# EAGLE library part POTH_4 (library Pot1)
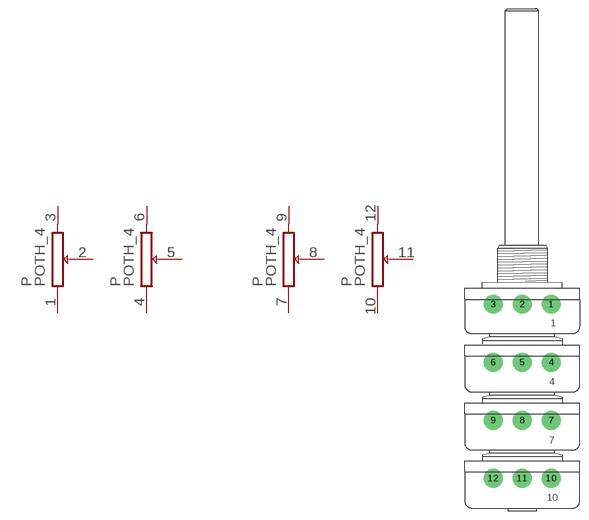
[diagram p3: symbol with the pads of POTH_4; footprint POTH_4]

Designator prefix P; gates G$1=POT_A G$2=POT_A G$3=POT_A G$4=POT_A

## POTH_4  [POTH_4]
1  G$1:1  pas
2  G$1:2  pas
3  G$1:3  pas
4  G$2:1  pas
5  G$2:2  pas
6  G$2:3  pas
7  G$3:1  pas
8  G$3:2  pas
9  G$3:3  pas
10  G$4:1  pas
11  G$4:2  pas
12  G$4:3  pas

## Footprint POTH_4 (pad centres in mm)
drill 0.813 pad 3.302 round: 1 5.08,13.97; 2 0,13.97; 3 -5.08,13.97; 4 5.08,3.81; 5 0,3.81; 6 -5.08,3.81; 7 5.08,-6.35; 8 0,-6.35; 9 -5.08,-6.35; 10 5.08,-16.51; 11 0,-16.51; 12 -5.08,-16.51